# EAGLE library part BQ27220YZFR (library BQ27220YZFR)
ingle cell Pack/System-side CEDV Battery Fuel (Gas) Gauge w/Pre-programmed Chemistry Profiles, BGA-9 Source: Datasheet <http://www.ti.com/lit/ds/symlink/bq27220.pdf>
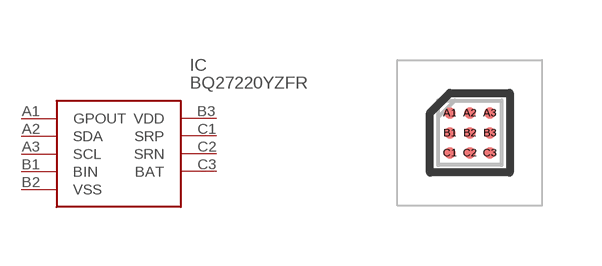
[diagram p0: symbol with the pads of BGA9C50P3X3_158X162X62; footprint BGA9C50P3X3_158X162X62]

Designator prefix IC

## BQ27220YZFR (Description: ingle cell Pack/System-side CEDV Battery Fuel (Gas) Gauge w/Pre-programmed Chemistry Profiles, BGA-9; Height: 0.625mm; Manufacturer_Name: Texas Instruments; Manufacturer_Part_Number: BQ27220YZFR; Mouser_Part_Number: 595-BQ27220YZFR; Mouser_Price-Stock: https://www.mouser.co.uk/ProductDetail/Texas-Instruments/BQ27220YZFR?qs=dSktwyqbRaX%252B5G1xe9oNWw%3D%3D)  [BGA9C50P3X3_158X162X62]
A1  GPOUT
A2  SDA
A3  SCL
B1  BIN
B2  VSS
B3  VDD
C1  SRP
C2  SRN
C3  BAT

## Footprint BGA9C50P3X3_158X162X62 (pad centres in mm)
YZF0009=
smd 0.29 x 0.29: A1 -0.5,0.5; A2 0,0.5; A3 0.5,0.5; B1 -0.5,0; B2 0,0; B3 0.5,0; C1 -0.5,-0.5; C2 0,-0.5; C3 0.5,-0.5